# Altium footprint library 杂项库.PcbLib: 585 footprints (part 2 of 37)
Each footprint in its own frame and in the unit in brackets; x right, y up, seen from the top. Pads: shape width x height; smd on the part's side, far side on the other; paste and mask are expansions set on the pad; w line width, h text height; cw(c..) or ccw(c..) is an arc to the next point about the centre after c.
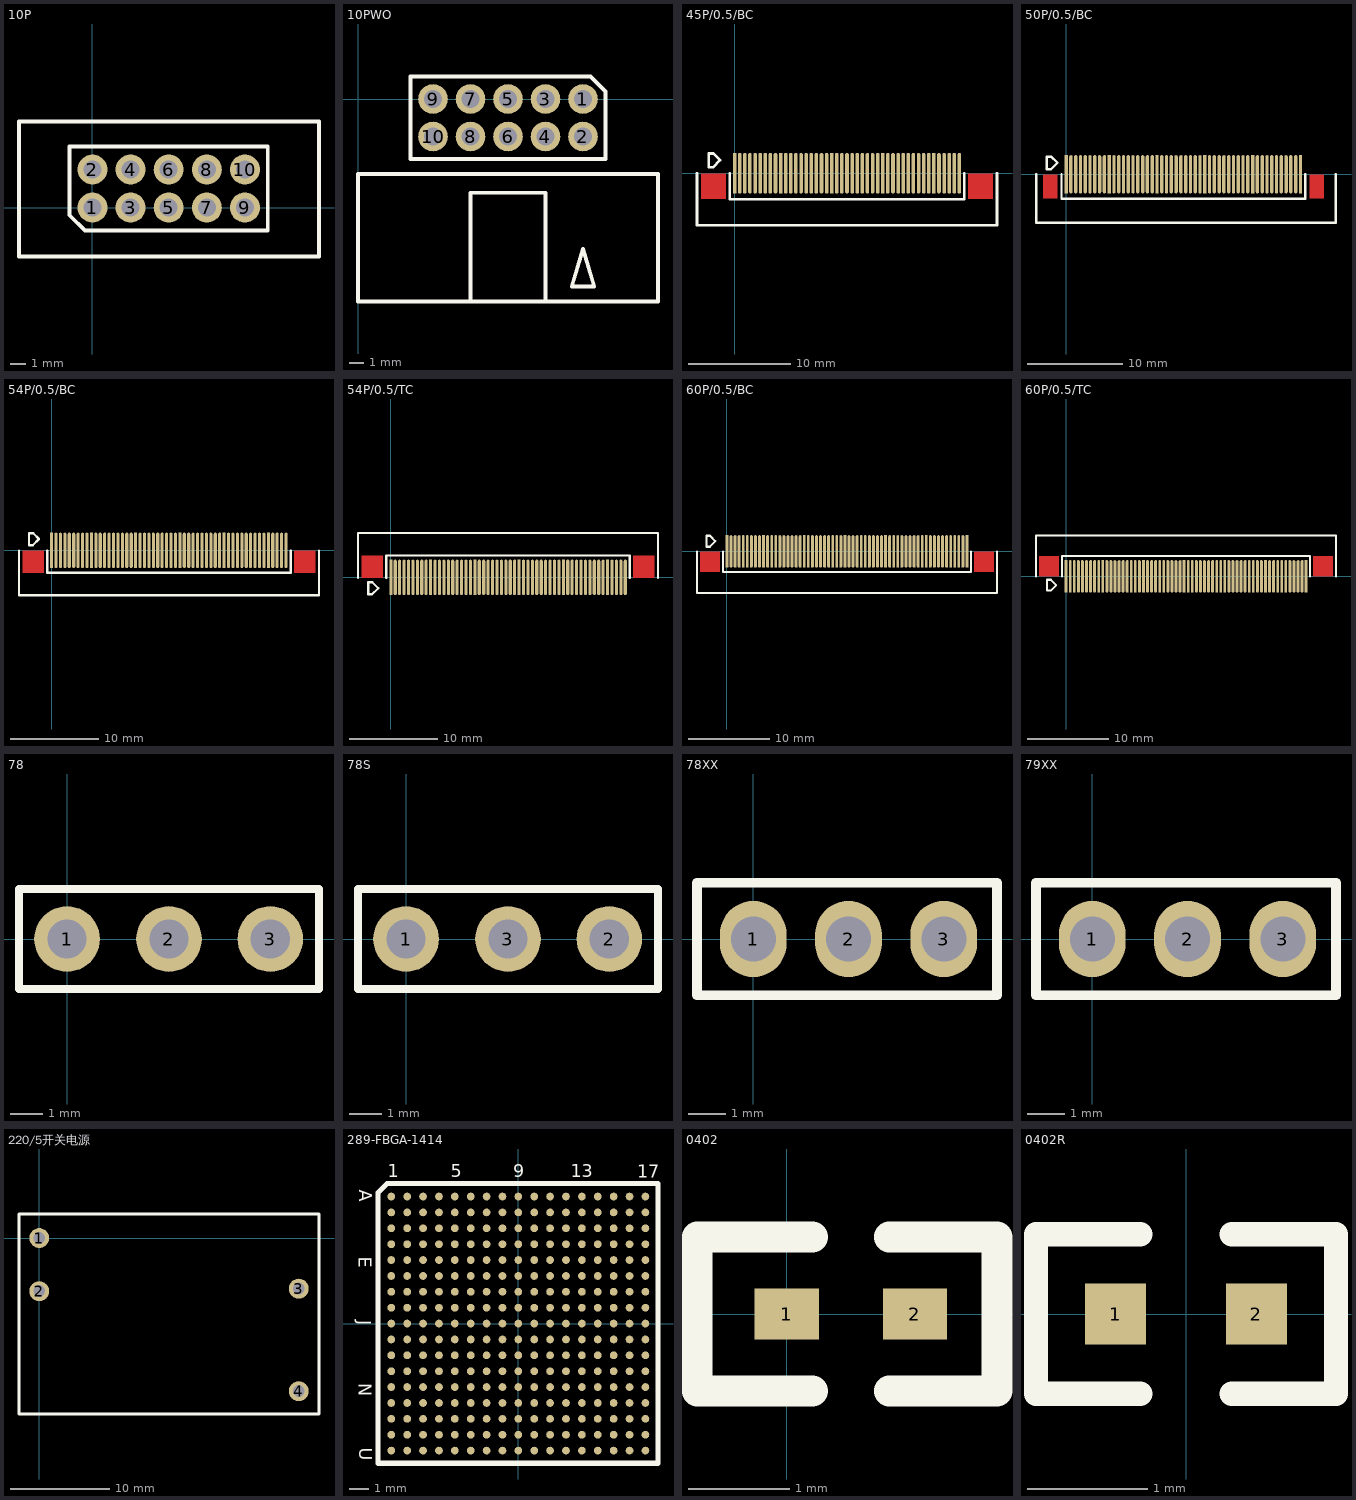
[diagram p1: the footprints below, top view; thin cyan lines are the x and y axes]

## 10P [mm]
pads (10):
  round 2 hole 1.2: 1(0,0) 2(0,2.54) 3(2.54,0) 4(2.54,2.54) 5(5.08,0) 6(5.08,2.54) 7(7.62,0) 8(7.62,2.54) 9(10.16,0) 10(10.16,2.54)
Top Overlay:
  lines w0.254: -4.9,-3.26 -4.9,5.74 15.1,5.74 15.1,-3.26 -4.9,-3.26 ; -1.524,-0.508 -1.524,4.064 11.684,4.064 11.684,-1.524 -0.508,-1.524 -1.524,-0.508

## 10PWO [mm]
pads (10):
  round 2 hole 1.2: 1(15.24,0) 2(15.24,-2.54) 3(12.7,0) 4(12.7,-2.54) 5(10.16,0) 6(10.16,-2.54) 7(7.62,0) 8(7.62,-2.54) 9(5.08,0) 10(5.08,-2.54)
Top Overlay:
  lines w0.254: 7.62,-13.716 7.62,-6.35 12.7,-6.35 12.7,-13.716 ; 0,-5.08 20.32,-5.08 ; 0,-5.08 20.32,-5.08 ; 0,-5.08 0,-13.716 20.32,-13.716 20.32,-5.08 ; 3.556,-4.064 16.764,-4.064 16.764,0.508 15.748,1.524 3.556,1.524 3.556,-4.064 ; 14.478,-12.7 15.24,-10.16 16.002,-12.7 14.478,-12.7

## 45P/0.5/BC [mm]
pads (45):
  rect 0.35x4 smd: 1(0,0) 10(4.5,0) 20(9.5,0) 30(14.5,0) 40(19.5,0)
  oval 0.35x4 smd: 2(0.5,0) 3(1,0) 4(1.5,0) 5(2,0) 6(2.5,0) 7(3,0) 8(3.5,0) 9(4,0) 11(5,0) 12(5.5,0) 13(6,0) 14(6.5,0) 15(7,0) 16(7.5,0) 17(8,0) 18(8.5,0) 19(9,0) 21(10,0) 22(10.5,0) 23(11,0) 24(11.5,0) 25(12,0) 26(12.5,0) 27(13,0) 28(13.5,0) 29(14,0) 31(15,0) 32(15.5,0) 33(16,0) 34(16.5,0) 35(17,0) 36(17.5,0) 37(18,0) 38(18.5,0) 39(19,0) 41(20,0) 42(20.5,0) 43(21,0) 44(21.5,0) 45(22,0)
Top Layer:
  region: -0.838,0 -3.302,0 -3.302,-2.54 -0.838,-2.54
  region: 25.298,0 22.835,0 22.835,-2.54 25.298,-2.54
Top Overlay:
  lines w0.254: -3.683,0 -3.683,-4.775 -3.683,-5.08 25.679,-5.08 25.679,0 ; -2.54,1.869 -2.54,1.93 ; -0.483,0 -0.483,-2.54 22.479,-2.54 22.479,0 ; -2.54,1.93 -2.54,0.584 -2.119,0.584 -1.428,1.275 -2.083,1.93 -2.54,1.93
Top Solder:
  region: -0.838,0 -3.302,0 -3.302,-2.54 -0.838,-2.54
  region: 25.298,0 22.835,0 22.835,-2.54 25.298,-2.54

## 50P/0.5/BC [mm]
pads (50):
  rect 0.35x4 smd: 1(0,0) 10(4.5,0) 20(9.5,0) 30(14.5,0) 40(19.5,0) 50(24.5,0)
  oval 0.35x4 smd: 2(0.5,0) 3(1,0) 4(1.5,0) 5(2,0) 6(2.5,0) 7(3,0) 8(3.5,0) 9(4,0) 11(5,0) 12(5.5,0) 13(6,0) 14(6.5,0) 15(7,0) 16(7.5,0) 17(8,0) 18(8.5,0) 19(9,0) 21(10,0) 22(10.5,0) 23(11,0) 24(11.5,0) 25(12,0) 26(12.5,0) 27(13,0) 28(13.5,0) 29(14,0) 31(15,0) 32(15.5,0) 33(16,0) 34(16.5,0) 35(17,0) 36(17.5,0) 37(18,0) 38(18.5,0) 39(19,0) 41(20,0) 42(20.5,0) 43(21,0) 44(21.5,0) 45(22,0) 46(22.5,0) 47(23,0) 48(23.5,0) 49(24,0)
Top Layer:
  region: 26.975,0 25.451,0 25.451,-2.54 26.975,-2.54
  region: -0.914,0 -2.438,0 -2.438,-2.54 -0.914,-2.54
Top Overlay:
  lines w0.254: -3.15,-5.055 28.219,-5.08 ; -3.124,-5.055 -3.124,0 ; -2.032,1.793 -2.032,1.854 ; -0.483,0 -0.483,-2.54 25.019,-2.54 ; 25.015,-2.54 25.015,0 ; 28.216,-5.08 28.216,0 ; -2.032,1.854 -2.032,0.508 -1.611,0.508 -0.92,1.199 -1.575,1.854 -2.032,1.854
Top Solder:
  region: 27.026,0.051 25.4,0.051 25.4,-2.591 27.026,-2.591
  region: -0.864,0.051 -2.489,0.051 -2.489,-2.591 -0.864,-2.591

## 54P/0.5/BC [mm]
pads (54):
  rect 0.35x4 smd: 1(0,0) 10(4.5,0) 20(9.5,0) 30(14.5,0) 40(19.5,0) 50(24.5,0)
  oval 0.35x4 smd: 2(0.5,0) 3(1,0) 4(1.5,0) 5(2,0) 6(2.5,0) 7(3,0) 8(3.5,0) 9(4,0) 11(5,0) 12(5.5,0) 13(6,0) 14(6.5,0) 15(7,0) 16(7.5,0) 17(8,0) 18(8.5,0) 19(9,0) 21(10,0) 22(10.5,0) 23(11,0) 24(11.5,0) 25(12,0) 26(12.5,0) 27(13,0) 28(13.5,0) 29(14,0) 31(15,0) 32(15.5,0) 33(16,0) 34(16.5,0) 35(17,0) 36(17.5,0) 37(18,0) 38(18.5,0) 39(19,0) 41(20,0) 42(20.5,0) 43(21,0) 44(21.5,0) 45(22,0) 46(22.5,0) 47(23,0) 48(23.5,0) 49(24,0) 51(25,0) 52(25.5,0) 53(26,0) 54(26.5,0)
Top Layer:
  region: -0.838,0 -3.302,0 -3.302,-2.54 -0.838,-2.54
  region: 29.845,0 27.381,0 27.381,-2.54 29.845,-2.54
Top Overlay:
  lines w0.254: -3.683,0 -3.683,-4.775 -3.683,-5.08 30.226,-5.08 30.226,0 ; -2.54,1.869 -2.54,1.93 ; -0.483,0 -0.483,-2.54 27.026,-2.54 27.026,0 ; -2.54,1.93 -2.54,0.584 -2.119,0.584 -1.428,1.275 -2.083,1.93 -2.54,1.93
Top Solder:
  region: -0.838,0 -3.302,0 -3.302,-2.54 -0.838,-2.54
  region: 29.845,0 27.381,0 27.381,-2.54 29.845,-2.54

## 54P/0.5/TC [mm]
pads (54):
  rect 0.35x4 smd: 1(0,0) 10(4.5,0) 20(9.5,0) 30(14.5,0) 40(19.5,0) 50(24.5,0)
  oval 0.35x4 smd: 2(0.5,0) 3(1,0) 4(1.5,0) 5(2,0) 6(2.5,0) 7(3,0) 8(3.5,0) 9(4,0) 11(5,0) 12(5.5,0) 13(6,0) 14(6.5,0) 15(7,0) 16(7.5,0) 17(8,0) 18(8.5,0) 19(9,0) 21(10,0) 22(10.5,0) 23(11,0) 24(11.5,0) 25(12,0) 26(12.5,0) 27(13,0) 28(13.5,0) 29(14,0) 31(15,0) 32(15.5,0) 33(16,0) 34(16.5,0) 35(17,0) 36(17.5,0) 37(18,0) 38(18.5,0) 39(19,0) 41(20,0) 42(20.5,0) 43(21,0) 44(21.5,0) 45(22,0) 46(22.5,0) 47(23,0) 48(23.5,0) 49(24,0) 51(25,0) 52(25.5,0) 53(26,0) 54(26.5,0)
Top Layer:
  rectangle: -3.327,-0.051 -0.864,2.489
  rectangle: 27.356,-0.051 29.82,2.489
Top Overlay:
  lines w0.254: -3.708,-0.051 -3.708,5.029 30.201,5.029 30.201,4.724 30.201,-0.051 ; -2.54,-0.62 -2.54,-0.559 ; -0.508,-0.051 -0.508,2.489 27,2.489 27,-0.051 ; -2.54,-0.559 -2.083,-0.559 -1.428,-1.214 -2.119,-1.905 -2.54,-1.905 -2.54,-0.559
Top Solder:
  rectangle: -3.327,-0.051 -0.864,2.489
  rectangle: 27.356,-0.051 29.82,2.489

## 60P/0.5/BC [mm]
pads (60):
  rect 0.35x4 smd: 1(0,0) 10(4.5,0) 20(9.5,0) 30(14.503,0) 40(19.503,0) 50(24.503,0) 60(29.503,0)
  oval 0.35x4 smd: 2(0.5,0) 3(1,0) 4(1.5,0) 5(2,0) 6(2.5,0) 7(3,0) 8(3.5,0) 9(4,0) 11(5,0) 12(5.5,0) 13(6,0) 14(6.5,0) 15(7,0) 16(7.5,0) 17(8,0) 18(8.5,0) 19(9,0) 21(10,0) 22(10.5,0) 23(11,0) 24(11.5,0) 25(12,0) 26(12.5,0) 27(13,0) 28(13.5,0) 29(14,0) 31(15.003,0) 32(15.503,0) 33(16.003,0) 34(16.503,0) 35(17.003,0) 36(17.503,0) 37(18.003,0) 38(18.503,0) 39(19.003,0) 41(20.003,0) 42(20.503,0) 43(21.003,0) 44(21.503,0) 45(22.003,0) 46(22.503,0) 47(23.003,0) 48(23.503,0) 49(24.003,0) 51(25.003,0) 52(25.503,0) 53(26.003,0) 54(26.503,0) 55(27.003,0) 56(27.503,0) 57(28.003,0) 58(28.503,0) 59(29.003,0)
Top Layer:
  region: -0.838,0 -3.302,0 -3.302,-2.54 -0.838,-2.54
  region: 32.816,0 30.353,0 30.353,-2.54 32.816,-2.54
Top Overlay:
  lines w0.254: -3.683,0 -3.683,-4.775 -3.683,-5.08 33.198,-5.08 33.197,0 ; -2.54,1.869 -2.54,1.93 ; -0.483,0 -0.483,-2.54 29.997,-2.54 29.997,0 ; -2.54,1.93 -2.54,0.584 -2.119,0.584 -1.428,1.275 -2.083,1.93 -2.54,1.93
Top Solder:
  region: -0.838,0 -3.302,0 -3.302,-2.54 -0.838,-2.54
  region: 32.816,0 30.353,0 30.353,-2.54 32.816,-2.54

## 60P/0.5/TC [mm]
pads (60):
  rect 0.35x4 smd: 1(0,0) 10(4.5,0) 20(9.5,0) 30(14.503,0) 40(19.503,0) 50(24.503,0) 60(29.503,0)
  oval 0.35x4 smd: 2(0.5,0) 3(1,0) 4(1.5,0) 5(2,0) 6(2.5,0) 7(3,0) 8(3.5,0) 9(4,0) 11(5,0) 12(5.5,0) 13(6,0) 14(6.5,0) 15(7,0) 16(7.5,0) 17(8,0) 18(8.5,0) 19(9,0) 21(10,0) 22(10.5,0) 23(11,0) 24(11.5,0) 25(12,0) 26(12.5,0) 27(13,0) 28(13.5,0) 29(14,0) 31(15.003,0) 32(15.503,0) 33(16.003,0) 34(16.503,0) 35(17.003,0) 36(17.503,0) 37(18.003,0) 38(18.503,0) 39(19.003,0) 41(20.003,0) 42(20.503,0) 43(21.003,0) 44(21.503,0) 45(22.003,0) 46(22.503,0) 47(23.003,0) 48(23.503,0) 49(24.003,0) 51(25.003,0) 52(25.503,0) 53(26.003,0) 54(26.503,0) 55(27.003,0) 56(27.503,0) 57(28.003,0) 58(28.503,0) 59(29.003,0)
Top Layer:
  rectangle: -3.327,-0.025 -0.863,2.515
  rectangle: 30.328,-0.025 32.791,2.515
Top Overlay:
  lines w0.254: -3.708,-0.025 -3.708,5.055 33.172,5.055 33.172,4.75 33.172,-0.025 ; -0.508,-0.025 -0.508,2.515 29.972,2.515 29.972,-0.025 ; -2.337,-1.753 -1.916,-1.753 -1.225,-1.061 -1.88,-0.406 -2.337,-0.406 -2.337,-1.753
Top Solder:
  rectangle: -3.327,-0.025 -0.863,2.515
  rectangle: 30.328,-0.025 32.791,2.515

## 78 [mm]
pads (3):
  round 2 hole 1.2: 1(0,0) 2(3.107,0) 3(6.198,0)
Top Overlay:
  lines w0.254: -1.465,-1.524 -1.465,1.524 7.679,1.524 7.679,-1.524 -0.957,-1.524 -1.465,-1.524

## 78S [mm]
pads (3):
  round 2 hole 1.2: 1(0,0) 2(6.198,0) 3(3.107,0)
Top Overlay:
  lines w0.254: -1.465,-1.524 -0.957,-1.524 7.679,-1.524 7.679,1.524 -1.465,1.524 -1.465,-1.524

## 78XX [mil]
pads (3):
  oval 70x80 hole 47.24: 1(0,0) 2(100,0) 3(200,0)
Top Overlay:
  lines w10: -59.05,-59.05 255.91,-59.05 255.91,59.05 -59.05,59.05 -59.05,-59.05

## 79XX [mil]
pads (3):
  oval 70x80 hole 47.24: 1(0,0) 2(100,0) 3(200,0)
Top Overlay:
  lines w10: -59.05,-59.05 255.91,-59.05 255.91,59.05 -59.05,59.05 -59.05,-59.05

## 220/5开关电源 [mm]
pads (4):
  round 2 hole 1.2: 1(0,0) 2(0,-5.334) 3(26.035,-5.08) 4(26.035,-15.367)
Top Overlay:
  lines w0.254: -2.032,-17.653 28.067,-17.653 28.067,2.413 -2.032,2.413 -2.032,-17.653

## 289-FBGA-1414 [mm]
pads (289):
  round 0.39 smd: A1(-6.4,6.4) A2(-5.6,6.4) A3(-4.8,6.4) A4(-4,6.4) A5(-3.2,6.4) A6(-2.4,6.4) A7(-1.6,6.4) A8(-0.8,6.4) A9(0,6.4) A10(0.8,6.4) A11(1.6,6.4) A12(2.4,6.4) A13(3.2,6.4) A14(4,6.4) A15(4.8,6.4) A16(5.6,6.4) A17(6.4,6.4) B1(-6.4,5.6) B2(-5.6,5.6) B3(-4.8,5.6) B4(-4,5.6) B5(-3.2,5.6) B6(-2.4,5.6) B7(-1.6,5.6) B8(-0.8,5.6) B9(0,5.6) B10(0.8,5.6) B11(1.6,5.6) B12(2.4,5.6) B13(3.2,5.6) B14(4,5.6) B15(4.8,5.6) B16(5.6,5.6) B17(6.4,5.6) C1(-6.4,4.8) C2(-5.6,4.8) C3(-4.8,4.8) C4(-4,4.8) C5(-3.2,4.8) C6(-2.4,4.8) C7(-1.6,4.8) C8(-0.8,4.8) C9(0,4.8) C10(0.8,4.8) C11(1.6,4.8) C12(2.4,4.8) C13(3.2,4.8) C14(4,4.8) C15(4.8,4.8) C16(5.6,4.8) C17(6.4,4.8) D1(-6.4,4) D2(-5.6,4) D3(-4.8,4) D4(-4,4) D5(-3.2,4) D6(-2.4,4) D7(-1.6,4) D8(-0.8,4) D9(0,4) D10(0.8,4) D11(1.6,4) D12(2.4,4) D13(3.2,4) D14(4,4) D15(4.8,4) D16(5.6,4) D17(6.4,4) E1(-6.4,3.2) E2(-5.6,3.2) E3(-4.8,3.2) E4(-4,3.2) E5(-3.2,3.2) E6(-2.4,3.2) E7(-1.6,3.2) E8(-0.8,3.2) E9(0,3.2) E10(0.8,3.2) E11(1.6,3.2) E12(2.4,3.2) E13(3.2,3.2) E14(4,3.2) E15(4.8,3.2) E16(5.6,3.2) E17(6.4,3.2) F1(-6.4,2.4) F2(-5.6,2.4) F3(-4.8,2.4) F4(-4,2.4) F5(-3.2,2.4) F6(-2.4,2.4) F7(-1.6,2.4) F8(-0.8,2.4) F9(0,2.4) F10(0.8,2.4) F11(1.6,2.4) F12(2.4,2.4) F13(3.2,2.4) F14(4,2.4) F15(4.8,2.4) F16(5.6,2.4) F17(6.4,2.4) G1(-6.4,1.6) G2(-5.6,1.6) G3(-4.8,1.6) G4(-4,1.6) G5(-3.2,1.6) G6(-2.4,1.6) G7(-1.6,1.6) G8(-0.8,1.6) G9(0,1.6) G10(0.8,1.6) G11(1.6,1.6) G12(2.4,1.6) G13(3.2,1.6) G14(4,1.6) G15(4.8,1.6) G16(5.6,1.6) G17(6.4,1.6) H1(-6.4,0.8) H2(-5.6,0.8) H3(-4.8,0.8) H4(-4,0.8) H5(-3.2,0.8) H6(-2.4,0.8) H7(-1.6,0.8) H8(-0.8,0.8) H9(0,0.8) H10(0.8,0.8) H11(1.6,0.8) H12(2.4,0.8) H13(3.2,0.8) H14(4,0.8) H15(4.8,0.8) H16(5.6,0.8) H17(6.4,0.8) J1(-6.4,0) J2(-5.6,0) J3(-4.8,0) J4(-4,0) J5(-3.2,0) J6(-2.4,0) J7(-1.6,0) J8(-0.8,0) J9(0,0) J10(0.8,0) J11(1.6,0) J12(2.4,0) J13(3.2,0) J14(4,0) J15(4.8,0) J16(5.6,0) J17(6.4,0) K1(-6.4,-0.8) K2(-5.6,-0.8) K3(-4.8,-0.8) K4(-4,-0.8) K5(-3.2,-0.8) K6(-2.4,-0.8) K7(-1.6,-0.8) K8(-0.8,-0.8) K9(0,-0.8) K10(0.8,-0.8) K11(1.6,-0.8) K12(2.4,-0.8) K13(3.2,-0.8) K14(4,-0.8) K15(4.8,-0.8) K16(5.6,-0.8) K17(6.4,-0.8) L1(-6.4,-1.6) L2(-5.6,-1.6) L3(-4.8,-1.6) L4(-4,-1.6) L5(-3.2,-1.6) L6(-2.4,-1.6) L7(-1.6,-1.6) L8(-0.8,-1.6) L9(0,-1.6) L10(0.8,-1.6) L11(1.6,-1.6) L12(2.4,-1.6) L13(3.2,-1.6) L14(4,-1.6) L15(4.8,-1.6) L16(5.6,-1.6) L17(6.4,-1.6) M1(-6.4,-2.4) M2(-5.6,-2.4) M3(-4.8,-2.4) M4(-4,-2.4) M5(-3.2,-2.4) M6(-2.4,-2.4) M7(-1.6,-2.4) M8(-0.8,-2.4) M9(0,-2.4) M10(0.8,-2.4) M11(1.6,-2.4) M12(2.4,-2.4) M13(3.2,-2.4) M14(4,-2.4) M15(4.8,-2.4) M16(5.6,-2.4) M17(6.4,-2.4) N1(-6.4,-3.2) N2(-5.6,-3.2) N3(-4.8,-3.2) N4(-4,-3.2) N5(-3.2,-3.2) N6(-2.4,-3.2) N7(-1.6,-3.2) N8(-0.8,-3.2) N9(0,-3.2) N10(0.8,-3.2) N11(1.6,-3.2) N12(2.4,-3.2) N13(3.2,-3.2) N14(4,-3.2) N15(4.8,-3.2) N16(5.6,-3.2) N17(6.4,-3.2) P1(-6.4,-4) P2(-5.6,-4) P3(-4.8,-4) P4(-4,-4) P5(-3.2,-4) P6(-2.4,-4) P7(-1.6,-4) P8(-0.8,-4) P9(0,-4) P10(0.8,-4) P11(1.6,-4) P12(2.4,-4) P13(3.2,-4) P14(4,-4) P15(4.8,-4) P16(5.6,-4) P17(6.4,-4) R1(-6.4,-4.8) R2(-5.6,-4.8) R3(-4.8,-4.8) R4(-4,-4.8) R5(-3.2,-4.8) R6(-2.4,-4.8) R7(-1.6,-4.8) R8(-0.8,-4.8) R9(0,-4.8) R10(0.8,-4.8) R11(1.6,-4.8) R12(2.4,-4.8) R13(3.2,-4.8) R14(4,-4.8) R15(4.8,-4.8) R16(5.6,-4.8) R17(6.4,-4.8) T1(-6.4,-5.6) T2(-5.6,-5.6) T3(-4.8,-5.6) T4(-4,-5.6) T5(-3.2,-5.6) T6(-2.4,-5.6) T7(-1.6,-5.6) T8(-0.8,-5.6) T9(0,-5.6) T10(0.8,-5.6) T11(1.6,-5.6) T12(2.4,-5.6) T13(3.2,-5.6) T14(4,-5.6) T15(4.8,-5.6) T16(5.6,-5.6) T17(6.4,-5.6) U1(-6.4,-6.4) U2(-5.6,-6.4) U3(-4.8,-6.4) U4(-4,-6.4) U5(-3.2,-6.4) U6(-2.4,-6.4) U7(-1.6,-6.4) U8(-0.8,-6.4) U9(0,-6.4) U10(0.8,-6.4) U11(1.6,-6.4) U12(2.4,-6.4) U13(3.2,-6.4) U14(4,-6.4) U15(4.8,-6.4) U16(5.6,-6.4) U17(6.4,-6.4)
Top Overlay:
  lines w0.254: -7.062,6.324 -7.062,6.603 ; -6.452,7.06 -6.605,7.06 ; -7.062,6.603 -7.062,-7.037 7.035,-7.037 7.035,7.06 -6.605,7.06 ; -7.062,6.603 -6.605,7.06 ; -7.062,6.603 -6.605,7.06
  text "17" at 5.994,7.34 h0.64
  text "1" at -6.579,7.365 h0.64
  text "5" at -3.404,7.365 h0.64
  text "9" at -0.255,7.365 h0.64
  text "13" at 2.641,7.365 h0.64
  text "A" at -8.027,6.73 h0.64
  text "E" at -8.053,3.377 h0.64
  text "J" at -8.078,0.177 h0.64
  text "N" at -8.053,-2.998 h0.64
  text "U" at -8.027,-6.249 h0.64

## 0402 [mil]
pads (2):
  rect 25x20 smd: 1(0,0) 2(50,0)
Top Overlay:
  lines w12: 10,-30 -35,-30 -35,30 10,30 ; 40,-30 82,-30 82,30 40,30

## 0402R [mil]
pads (2):
  rect 20x20 smd: 1(-23,0) 2(23,0)
Top Overlay:
  lines w8: -15,-26 -49,-26 -49,26 -15,26 ; 15,-26 49,-26 49,26 15,26